# EAGLE library part SLIDE (library hw4)
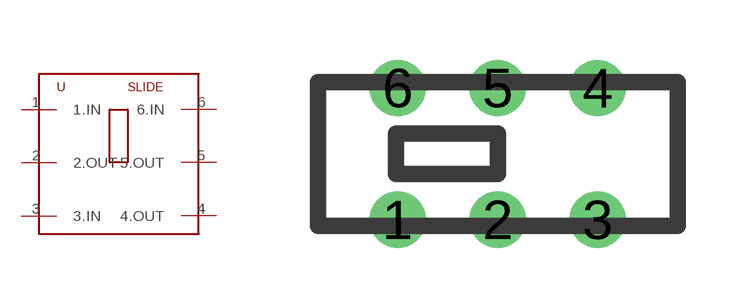
[diagram p2: symbol with the pads of SLIDE; footprint SLIDE]

Designator prefix -

## SLIDE  [SLIDE]
1  1.IN
2  2.OUT
3  3.IN
4  4.OUT
5  5.OUT
6  6.IN

## Footprint SLIDE (pad centres in mm)
drill 0.9: 1 -2.5,-1.65; 2 0,-1.65; 3 2.5,-1.65; 4 2.5,1.65; 5 0,1.65; 6 -2.5,1.65